# Altium footprint library SMBJ5370B-TP.PcbLib: 1 footprints
Each footprint in its own frame and in the unit in brackets; x right, y up, seen from the top. Pads: shape width x height; smd on the part's side, far side on the other; paste and mask are expansions set on the pad; w line width, h text height; cw(c..) or ccw(c..) is an arc to the next point about the centre after c.
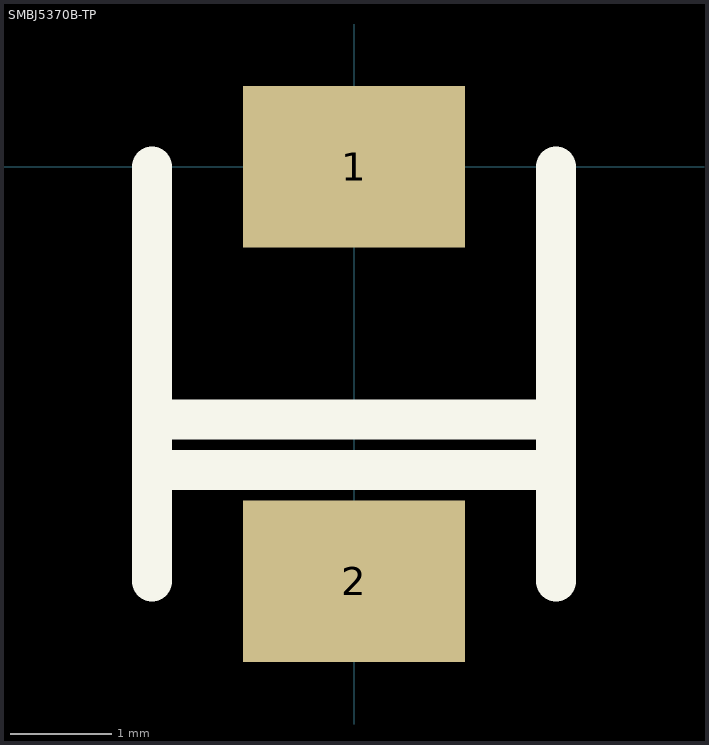
[diagram p0: the footprint, top view; thin cyan lines are the x and y axes]

## SMBJ5370B-TP [mm] "56V zener diode"
pads (2):
  rect 2.2x1.6 smd: 1(0,0) 2(0,-4.1)
Top Overlay:
  lines w0.4: -2,-4.1 -2,0 ; -2,-3 2,-3 ; -2,-2.5 2,-2.5 ; 2,-4.1 2,0